# Altium footprint library Mobo.PcbLib: 35 footprints (part 2 of 3)
Each footprint in its own frame and in the unit in brackets; x right, y up, seen from the top. Pads: shape width x height; smd on the part's side, far side on the other; paste and mask are expansions set on the pad; w line width, h text height; cw(c..) or ccw(c..) is an arc to the next point about the centre after c.
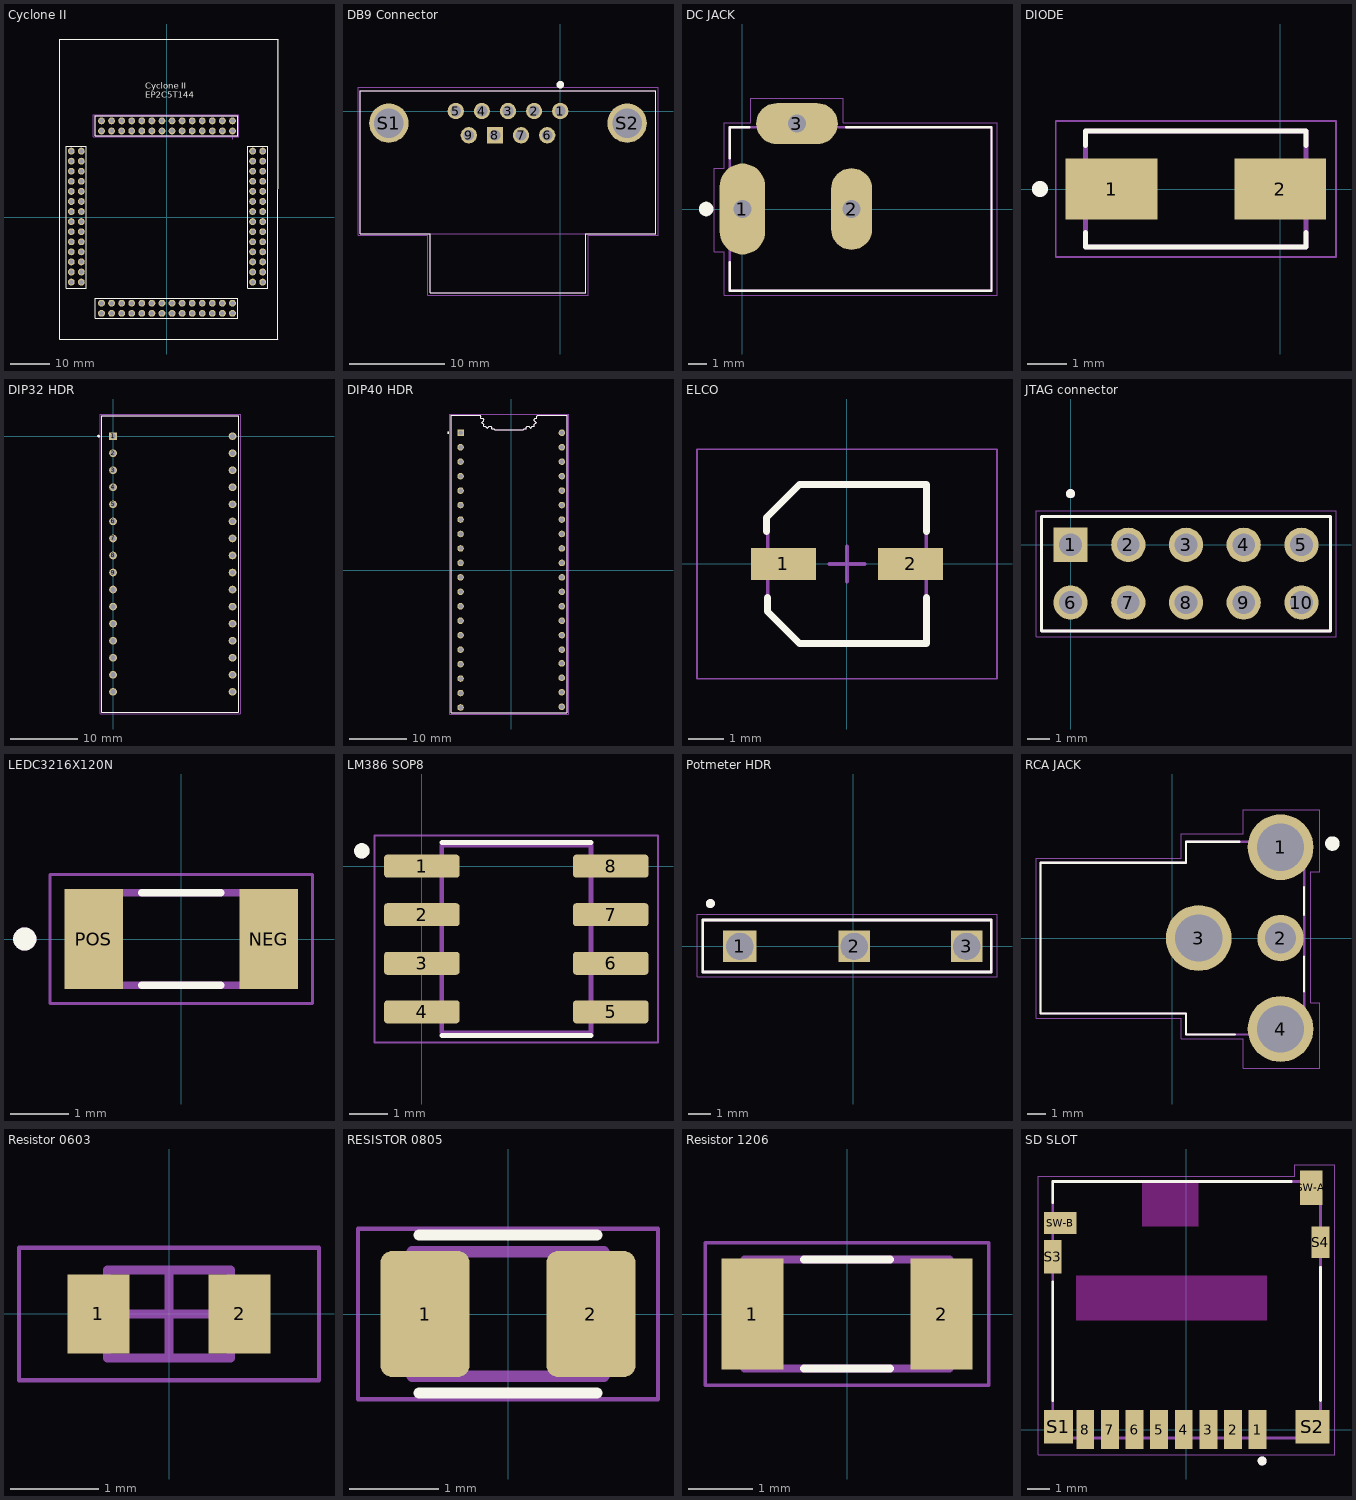
[diagram p1: the footprints below, top view; thin cyan lines are the x and y axes]

## Cyclone II [mm] "Cyclone II - EP2C5T144"
pads (112):
  round 1.725 hole 1.15: 1(16.51,24.257) 2(16.51,21.717) 3(13.97,24.257) 4(13.97,21.717) 5(11.43,24.257) 6(11.43,21.717) 7(8.89,24.257) 8(8.89,21.717) 9(6.35,24.257) 10(6.35,21.717) 11(3.81,24.257) 12(3.81,21.717) 13(1.27,24.257) 14(1.27,21.717) 15(-1.27,24.257) 16(-1.27,21.717) 17(-3.81,24.257) 18(-3.81,21.717) 19(-6.35,24.257) 20(-6.35,21.717) 21(-8.89,24.257) 22(-8.89,21.717) 23(-11.43,24.257) 24(-11.43,21.717) 25(-13.97,24.257) 26(-13.97,21.717) 27(-16.51,24.257) 28(-16.51,21.717) 29(-24.13,16.637) 30(-21.59,16.637) 31(-24.13,14.097) 32(-21.59,14.097) 33(-24.13,11.557) 34(-21.59,11.557) 35(-24.13,9.017) 36(-21.59,9.017) 37(-24.13,6.477) 38(-21.59,6.477) 39(-24.13,3.937) 40(-21.59,3.937) 41(-24.13,1.397) 42(-21.59,1.397) 43(-24.13,-1.143) 44(-21.59,-1.143) 45(-24.13,-3.683) 46(-21.59,-3.683) 47(-24.13,-6.223) 48(-21.59,-6.223) 49(-24.13,-8.763) 50(-21.59,-8.763) 51(-24.13,-11.303) 52(-21.59,-11.303) 53(-24.13,-13.843) 54(-21.59,-13.843) 55(-24.13,-16.383) 56(-21.59,-16.383) 57(16.51,-21.717) 58(16.51,-24.257) 59(13.97,-21.717) 60(13.97,-24.257) 61(11.43,-21.717) 62(11.43,-24.257) 63(8.89,-21.717) 64(8.89,-24.257) 65(6.35,-21.717) 66(6.35,-24.257) 67(3.81,-21.717) 68(3.81,-24.257) 69(1.27,-21.717) 70(1.27,-24.257) 71(-1.27,-21.717) 72(-1.27,-24.257) 73(-3.81,-21.717) 74(-3.81,-24.257) 75(-6.35,-21.717) 76(-6.35,-24.257) 77(-8.89,-21.717) 78(-8.89,-24.257) 79(-11.43,-21.717) 80(-11.43,-24.257) 81(-13.97,-21.717) 82(-13.97,-24.257) 83(-16.51,-21.717) 84(-16.51,-24.257) 85(24.13,16.637) 86(21.59,16.637) 87(24.13,14.097) 88(21.59,14.097) 89(24.13,11.557) 90(21.59,11.557) 91(24.13,9.017) 92(21.59,9.017) 93(24.13,6.477) 94(21.59,6.477) 95(24.13,3.937) 96(21.59,3.937) 97(24.13,1.397) 98(21.59,1.397) 99(24.13,-1.143) 100(21.59,-1.143) 101(24.13,-3.683) 102(21.59,-3.683) 103(24.13,-6.223) 104(21.59,-6.223) 105(24.13,-8.763) 106(21.59,-8.763) 107(24.13,-11.303) 108(21.59,-11.303) 109(24.13,-13.843) 110(21.59,-13.843) 111(24.13,-16.383) 112(21.59,-16.383)
Top Overlay:
  lines w0.127: -25.4,-17.907 -25.4,17.907 -20.32,17.907 -20.32,-17.907 -25.4,-17.907 ; -18.034,-25.527 -18.034,-20.447 17.78,-20.447 17.78,-25.527 -18.034,-25.527 ; -18.034,20.447 -18.034,25.527 17.78,25.527 17.78,20.447 -18.034,20.447 ; 20.32,-17.907 20.32,17.907 25.4,17.907 25.4,-17.907 20.32,-17.907
  lines w0.2: -27.051,-30.734 -27.051,44.831 28.067,44.831 27.94,-30.734 -27.051,-30.734
  text "Cyclone II / EP2C5T144" at -5.461,30.099 h1.52
Mechanical 1:
  lines w0.2: -27.051,-30.734 -27.015,44.895 ; -27.013,-30.734 28.067,-30.734 ; -27.013,44.831 28.067,44.831 ; 27.94,-30.734 27.976,44.895
Mechanical 13:
  circle w0.2: c16.51,19.847 r0.1
  lines w0.127: -18.034,20.447 -18.034,25.527 17.78,25.527 17.78,20.447 -18.034,20.447
Mechanical 15:
  lines w0.05: -18.542,20.197 -18.542,25.777 18.03,25.777 18.03,20.197 -18.542,20.197

## DB9 Connector [mm] "DB9 Sega joystick connector"
pads (11):
  round 1.708 hole 1.14: 1(0,0) 2(-2.74,0) 3(-5.48,0) 4(-8.22,0) 5(-10.96,0) 6(-1.37,-2.54) 7(-4.11,-2.54) 9(-9.59,-2.54)
  rect 1.708x1.708 hole 1.14: 8(-6.85,-2.54)
  round 4.116 hole 3.1: S1(-17.98,-1.27) S2(7.02,-1.27)
Top Overlay:
  circle w0.4: c0.009,2.77 r0.2
  lines w0.127: -20.96,-12.87 -13.63,-12.87 -13.63,-19.07 2.67,-19.07 2.67,-12.87 10,-12.87 10,2.13 -20.96,2.13 -20.96,-12.87
Mechanical 13:
  lines w0.127: -13.63,-12.87 2.67,-12.87 ; -13.63,-12.87 -20.96,-12.87 -20.96,2.13 10,2.13 10,-12.87 2.67,-12.87 ; -13.63,-12.87 -13.63,-19.07 2.67,-19.07 2.67,-12.87
Mechanical 15:
  lines w0.05: -21.21,-13.05 -21.21,2.48 10.25,2.48 10.25,-13.05 2.92,-13.05 2.92,-19.32 -13.88,-19.32 -13.88,-13.05 -21.21,-13.05
3D body "3-106505-2.stp": height 13.85, standoff -3.1, extent -20.93,-19.159 10.16,2.141

## DC JACK [mm] "DC power jack connector"
pads (3):
  oval 2.5x5 hole 1 square: 1(0,0)
  oval 2.25x4.5 hole 1 square: 2(6,0)
  oval 4.5x2.25 hole 1 square: 3(3,4.7)
Top Overlay:
  circle w0.4: c-2,0 r0.2
  lines w0.127: -0.7,-2.921 -0.7,-4.5 13.7,-4.5 13.7,4.5 5.715,4.5 ; -0.7,2.794 -0.7,4.5 0.381,4.5
Mechanical 13:
  lines w0.127: -0.7,-4.5 -0.7,4.5 13.7,4.5 13.7,-4.5 -0.7,-4.5
Mechanical 15:
  lines w0.05: -1.55,-2.35 -1,-2.35 -1,-4.75 14,-4.75 14,4.75 5.55,4.75 5.55,6.1 0.45,6.1 0.45,4.75 -1,4.75 -1,2.25 -1.55,2.25 -1.55,-2.35
3D body "PJ-002A--3DModel-STEP-56544.STEP": height 11, standoff -3.5, extent -0.723,-4.574 13.677,4.826

## DIODE [mm] "SMD DIODE"
height 2.7
pads (2):
  rect 2.33x1.56 smd: 1(-4.28,0) 2(0,0)
Top Overlay:
  circle w0.2: c-6.096,0 r0.1
  lines w0.127: -4.94,-1.1 -4.94,-1.475 0.66,-1.475 0.66,-1.1 ; -4.94,1.1 -4.94,1.475 0.66,1.475 0.66,1.1
Mechanical 13:
  circle w0.2: c-6.096,0 r0.1
  lines w0.127: -4.94,-1.475 0.66,-1.475 0.66,1.475 -4.94,1.475 -4.94,-1.475
Mechanical 15:
  lines w0.05: -5.695,-1.725 -5.695,1.725 1.415,1.725 1.415,-1.725 -5.695,-1.725
3D body "step_temp.STEP": height 2.19, standoff 0.02, extent -4.538,-1.303 0.512,1.397

## DIP32 HDR [mm]
pads (32):
  rect 1.15x1.15 / inner round 1.15 / far side rect 1.15x1.15 hole 0.8: 1(0,0)
  round 1.15 hole 0.8: 2(0,-2.54) 3(0,-5.08) 4(0,-7.62) 5(0,-10.16) 6(0,-12.7) 7(0,-15.24) 8(0,-17.78) 9(0,-20.32) 10(0,-22.86) 11(0,-25.4) 12(0,-27.94) 13(0,-30.48) 14(0,-33.02) 15(0,-35.56) 16(0,-38.1) 17(17.8,-38.1) 18(17.8,-35.56) 19(17.8,-33.02) 20(17.8,-30.48) 21(17.8,-27.94) 22(17.8,-25.4) 23(17.8,-22.86) 24(17.8,-20.32) 25(17.8,-17.78) 26(17.8,-15.24) 27(17.8,-12.7) 28(17.8,-10.16) 29(17.8,-7.62) 30(17.8,-5.08) 31(17.8,-2.54) 32(17.8,0)
Top Overlay:
  circle w0.2: c-2.153,0 r0.1
  lines w0.127: -1.652,-41.15 -1.652,3.05 18.669,3.05 18.669,-41.15 -1.652,-41.15
Mechanical 13:
  circle w0.2: c-2.153,0 r0.1
  lines w0.127: -1.652,-41.148 18.669,-41.148 18.669,3.05 -1.652,3.05 -1.652,-41.148
Mechanical 15:
  lines w0.05: -1.903,-41.4 18.923,-41.4 18.923,3.3 -1.903,3.3 -1.903,-41.4

## DIP40 HDR [mm] "ATMega DIP40 socket"
pads (40):
  rect 1.15x1.15 / inner round 1.15 / far side rect 1.15x1.15 hole 0.8: 1(-8.9,24.13)
  round 1.15 hole 0.8: 2(-8.9,21.59) 3(-8.9,19.05) 4(-8.9,16.51) 5(-8.9,13.97) 6(-8.9,11.43) 7(-8.9,8.89) 8(-8.9,6.35) 9(-8.9,3.81) 10(-8.9,1.27) 11(-8.9,-1.27) 12(-8.9,-3.81) 13(-8.9,-6.35) 14(-8.9,-8.89) 15(-8.9,-11.43) 16(-8.9,-13.97) 17(-8.9,-16.51) 18(-8.9,-19.05) 19(-8.9,-21.59) 20(-8.9,-24.13) 21(8.88,-24.003) 22(8.88,-21.463) 23(8.88,-18.923) 24(8.88,-16.383) 25(8.9,-13.97) 26(8.9,-11.43) 27(8.9,-8.89) 28(8.9,-6.35) 29(8.9,-3.81) 30(8.9,-1.27) 31(8.9,1.27) 32(8.9,3.81) 33(8.9,6.35) 34(8.9,8.89) 35(8.9,11.43) 36(8.9,13.97) 37(8.9,16.51) 38(8.9,19.05) 39(8.9,21.59) 40(8.9,24.13)
Top Overlay:
  circle w0.2: c-11.053,24.13 r0.1
  lines w0.127: -10.552,-25.019 -10.552,27.18 -5.472,27.18 -5.313,27.021 -5.313,26.703 -4.995,26.703 -4.837,26.544 -4.837,26.227 -5.154,25.909 -4.837,25.591 -4.837,25.274 -4.519,25.274 -4.201,24.956 -3.883,25.274 -3.566,25.274 -3.407,25.115 -3.407,24.797 -3.089,24.797 -2.93,24.638 2.147,24.638 2.305,24.797 2.623,24.797 2.623,25.115 2.782,25.274 3.1,25.274 3.418,24.956 3.735,25.274 4.053,25.274 4.053,25.591 4.371,25.909 4.053,26.227 4.053,26.544 4.212,26.703 4.53,26.703 4.53,27.021 4.689,27.18 9.769,27.18 9.769,-25.019 -10.552,-25.019
Mechanical 13:
  circle w0.2: c-11.053,24.13 r0.1
  lines w0.127: -10.552,-25.019 -10.552,27.18 -5.472,27.18 -5.313,27.021 -5.313,26.703 -4.995,26.703 -4.837,26.544 -4.837,26.227 -5.154,25.909 -4.837,25.591 -4.837,25.274 -4.519,25.274 -4.201,24.956 -3.883,25.274 -3.566,25.274 -3.407,25.115 -3.407,24.797 -3.089,24.797 -2.93,24.638 2.147,24.638 2.305,24.797 2.623,24.797 2.623,25.115 2.782,25.274 3.1,25.274 3.418,24.956 3.735,25.274 4.053,25.274 4.053,25.591 4.371,25.909 4.053,26.227 4.053,26.544 4.212,26.703 4.53,26.703 4.53,27.021 4.689,27.18 9.769,27.18 9.769,-25.019 -10.552,-25.019
Mechanical 15:
  lines w0.05: -10.803,-25.273 -10.803,27.43 10.023,27.43 10.023,-25.273 -10.803,-25.273

## ELCO [mm] "ELCO CAP"
height 6.1
pads (2):
  rect 1.85x0.9 smd: 1(-1.8,0) 2(1.8,0)
Top Overlay:
  lines w0.2: -2.28,0.921 -2.28,1.321 ; -2.25,-0.95 -2.25,-1.35 -1.35,-2.25 2.25,-2.25 2.25,-0.95 ; -2.25,1.35 -1.35,2.25 2.25,2.25 ; 2.257,0.926 2.257,2.226
Mechanical 13:
  lines w0.1: -2.25,-1.35 -1.35,-2.25 2.25,-2.25 2.25,2.25 -1.35,2.25 -2.25,1.35 -2.25,-1.35
Mechanical 15:
  lines w0.05: -4.25,-3.25 -4.25,3.25 4.25,3.25 4.25,-3.25 -4.25,-3.25
  lines w0.1: -0.5,0 0.5,0 ; 0,-0.5 0,0.5
3D body "ELCO.step": height 6.1, standoff 0, extent -2.425,-2.25 2.425,2.25

## JTAG connector [mm]
pads (10):
  rect 1.508x1.508 hole 1: 1(0,0)
  round 1.508 hole 1: 2(2.54,0) 3(5.08,0) 4(7.62,0) 5(10.16,0) 6(0,-2.54) 7(2.54,-2.54) 8(5.08,-2.54) 9(7.62,-2.54) 10(10.16,-2.54)
Top Overlay:
  circle w0.2: c0,2.25 r0.1
  lines w0.127: -1.27,-3.79 11.43,-3.79 11.43,1.25 -1.27,1.25 -1.27,-3.79
Mechanical 13:
  circle w0.2: c0,2.25 r0.1
  lines w0.127: -1.27,-3.79 11.43,-3.79 11.43,1.25 -1.27,1.25 -1.27,-3.79
Mechanical 15:
  lines w0.05: -1.52,-4.04 11.68,-4.04 11.68,1.5 -1.52,1.5 -1.52,-4.04

## LEDC3216X120N [mm]
pads (2):
  rect 1.01x1.73 smd: NEG(1.51,0) POS(-1.51,0)
Top Overlay:
  circle w0.2: c-2.7,0 r0.1
  lines w0.127: -0.685,-0.8 0.685,-0.8 ; -0.685,0.8 0.685,0.8
Mechanical 13:
  circle w0.2: c-2.7,0 r0.1
  lines w0.127: -1.6,-0.8 -1.6,0.8 1.6,0.8 1.6,-0.8 -1.6,-0.8
Mechanical 15:
  lines w0.05: -2.265,-1.115 -2.265,1.115 2.265,1.115 2.265,-1.115 -2.265,-1.115

## LM386 SOP8 [mm] "LM368 SOP8 package"
pads (8):
  rrect25% 1.97x0.6 smd: 1(0,0) 2(0,-1.27) 3(0,-2.54) 4(0,-3.81) 5(4.94,-3.81) 6(4.94,-2.54) 7(4.94,-1.27) 8(4.94,0)
Top Overlay:
  circle w0.2: c-1.57,0.4 r0.1
  lines w0.127: 0.52,-4.43 4.42,-4.43 ; 0.52,0.62 4.42,0.62
Mechanical 13:
  circle w0.2: c-1.57,0.4 r0.1
  lines w0.127: 0.52,-4.357 0.52,0.547 4.42,0.547 4.42,-4.357 0.52,-4.357
Mechanical 15:
  lines w0.05: -1.235,-4.607 -1.235,0.797 6.175,0.797 6.175,-4.607 -1.235,-4.607
3D body "LM386.STEP": height 1.75, standoff 0, extent -0.457,-4.356 5.537,0.546

## Potmeter HDR [mm] "Potentiometer header"
pads (3):
  rect 1.498x1.398 hole 1.2 mask+0.102: 1(-5.04,0)
  rect 1.398x1.398 hole 1.2: 2(0.04,0) 3(5.04,0)
Top Overlay:
  circle w0.2: c-6.35,1.905 r0.1
  lines w0.127: -6.691,-1.143 -6.691,1.17 6.136,1.17 6.136,-1.143 -6.691,-1.143
Mechanical 13:
  circle w0.2: c-6.35,1.905 r0.1
  lines w0.127: -6.691,-1.143 6.136,-1.143 6.136,1.17 -6.691,1.17 -6.691,-1.143
Mechanical 15:
  lines w0.05: -6.945,-1.347 6.39,-1.347 6.39,1.42 -6.945,1.42 -6.945,-1.347

## RCA JACK [mm] "RCA Jack"
pads (4):
  round 3.616 hole 2.6: 1(5.95,5) 3(1.45,0) 4(5.95,-5)
  round 2.55 hole 1.7: 2(5.95,0)
Top Overlay:
  circle w0.4: c8.8,5.2 r0.2
  lines w0.127: 3.429,-5.3 0.75,-5.3 0.75,-4.15 -7.25,-4.15 -7.25,4.15 0.75,4.15 0.75,5.3 3.683,5.3 ; 7.239,-2.921 7.239,-1.016 ; 7.239,1.27 7.239,2.794
Mechanical 13:
  lines w0.127: -7.25,-4.15 0.75,-4.15 0.75,-5.3 7.25,-5.3 7.25,5.3 0.75,5.3 0.75,4.15 -7.25,4.15 -7.25,-4.15
Mechanical 15:
  lines w0.05: -7.5,-4.4 0.5,-4.4 0.5,-5.55 3.9,-5.55 3.9,-7.15 8.1,-7.15 8.1,-3.55 7.6,-3.55 7.6,3.65 8.1,3.65 8.1,7.05 3.9,7.05 3.9,5.75 0.5,5.75 0.5,4.4 -7.5,4.4 -7.5,-4.4
3D body "CUI_DEVICES_RCJ-014.step": height 12.4, standoff -4.2, extent -7.123,-6.35 7.377,5.25

## Resistor 0603 [mm] "PCF0603 SMD Resistor"
height 0.65
pads (2):
  rect 0.7x0.9 smd: 1(-0.8,0) 2(0.8,0)
Mechanical 13:
  lines w0.1: -0.7,-0.5 0.7,-0.5 0.7,0.5 -0.7,0.5 -0.7,-0.5
Mechanical 15:
  lines w0.05: -1.7,-0.75 1.7,-0.75 1.7,0.75 -1.7,0.75 -1.7,-0.75
  lines w0.1: -0.5,0 0.5,0 ; 0,-0.5 0,0.5
3D body "PCF0603.step": height 0.65, standoff 0, extent -0.7,-0.5 0.7,0.5

## RESISTOR 0805 [mm]
pads (2):
  rrect25% 1x1.42 smd: 1(-0.935,0) 2(0.935,0)
Top Overlay:
  lines w0.127: -1,-0.89 1,-0.89 ; -1,0.89 1,0.89
Mechanical 13:
  lines w0.127: -1.08,-0.7 -1.08,0.7 1.08,0.7 1.08,-0.7 -1.08,-0.7
Mechanical 15:
  lines w0.05: -1.69,-0.96 -1.69,0.96 1.69,0.96 1.69,-0.96 -1.69,-0.96
3D body "step_temp.STEP": height 0.6, standoff 0, extent -1,-0.625 1,0.625

## Resistor 1206 [mm]
pads (2):
  rect 0.97x1.73 smd: 1(-1.48,0) 2(1.48,0)
Top Overlay:
  lines w0.127: -0.67,-0.85 0.67,-0.85 ; -0.67,0.85 0.67,0.85
Mechanical 13:
  lines w0.127: -1.6,-0.85 -1.6,0.85 1.6,0.85 1.6,-0.85 -1.6,-0.85
Mechanical 15:
  lines w0.05: -2.215,-1.115 -2.215,1.115 2.215,1.115 2.215,-1.115 -2.215,-1.115
3D body "step_temp.STEP": height 0.65, standoff 0, extent -1.55,-0.8 1.55,0.8

## SD SLOT [mm]
pads (14):
  rect 0.8x1.75 smd: 1(3.2,0) 2(2.1,0) 3(1,0) 4(-0.1,0) 5(-1.2,0) 6(-2.3,0) 7(-3.4,0) 8(-4.5,0)
  rect 1.3x1.5 smd: S1(-5.7,0.125)
  rect 1.5x1.5 smd: S2(5.65,0.125)
  rect 0.8x1.5 smd: S3(-5.95,7.725)
  rect 0.8x1.4 smd: S4(6,8.375)
  rect 1x1.55 smd: SW-A(5.6,10.8)
  rect 1.45x1 smd: SW-B(-5.625,9.225)
Top Overlay:
  circle w0.2: c3.4,-1.4 r0.1
  lines w0.127: -5.95,1.3 -5.95,6.6 ; -5.95,10.15 -5.95,11.075 4.7,11.075 ; 6,1.3 6,7.25
Keep-Out Layer:
  region: 0.55,9.075 -1.95,9.075 -1.95,11.075 0.55,11.075
  region: 3.6,4.875 -4.9,4.875 -4.9,6.875 3.6,6.875
  region: 3.6,4.875 -4.9,4.875 -4.9,6.875 3.6,6.875
  region: 0.55,9.075 -1.95,9.075 -1.95,11.075 0.55,11.075
Mechanical 13:
  circle w0.2: c3.4,-1.4 r0.1
  lines w0.127: -5.95,-0.375 6,-0.375 6,11.075 -5.95,11.075 -5.95,-0.375
Mechanical 15:
  lines w0.05: -6.6,-1.125 -6.6,11.325 4.85,11.325 4.85,11.825 6.65,11.825 6.65,-1.125 -6.6,-1.125
3D body "DM3D-SF--3DModel-STEP-56544.STEP": height 1.55, standoff 0, extent -5.981,-0.391 5.969,11.059